# Altium schematic symbol library e-switch-toggle.SchLib: 1 symbol
Pins are listed as number, name and electrical type; pins without a type are passive.

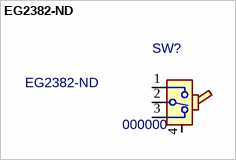
[diagram p0: symbol EG2382-ND]

## EG2382-ND
designator SW?, comment 000000  value EG2382-ND
Toggle Switch - SPDT 0.4VA 20V; ExtraInfo: On-Off-On, Through Hole, Right Angle, Vertical; PN: 000000; Package: PTH
footprint EG2382 (Toggle Swithc - Right Angle - Vertical)
pins: 1, 2, 3, 4 3